# Altium schematic symbol library TPS73118DBVT.SchLib: 1 symbol
Pins are listed as number, name and electrical type; pins without a type are passive.

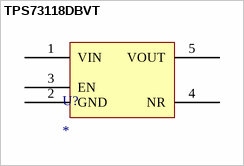
[diagram p0: symbol TPS73118DBVT]

## TPS73118DBVT
designator U?
pins: 1 VIN, 2 GND, 3 EN, 4 NR, 5 VOUT